# Altium footprint library custom-case.PcbLib: 168 footprints (part 11 of 11)
Each footprint in its own frame and in the unit in brackets; x right, y up, seen from the top. Pads: shape width x height; smd on the part's side, far side on the other; paste and mask are expansions set on the pad; w line width, h text height; cw(c..) or ccw(c..) is an arc to the next point about the centre after c.
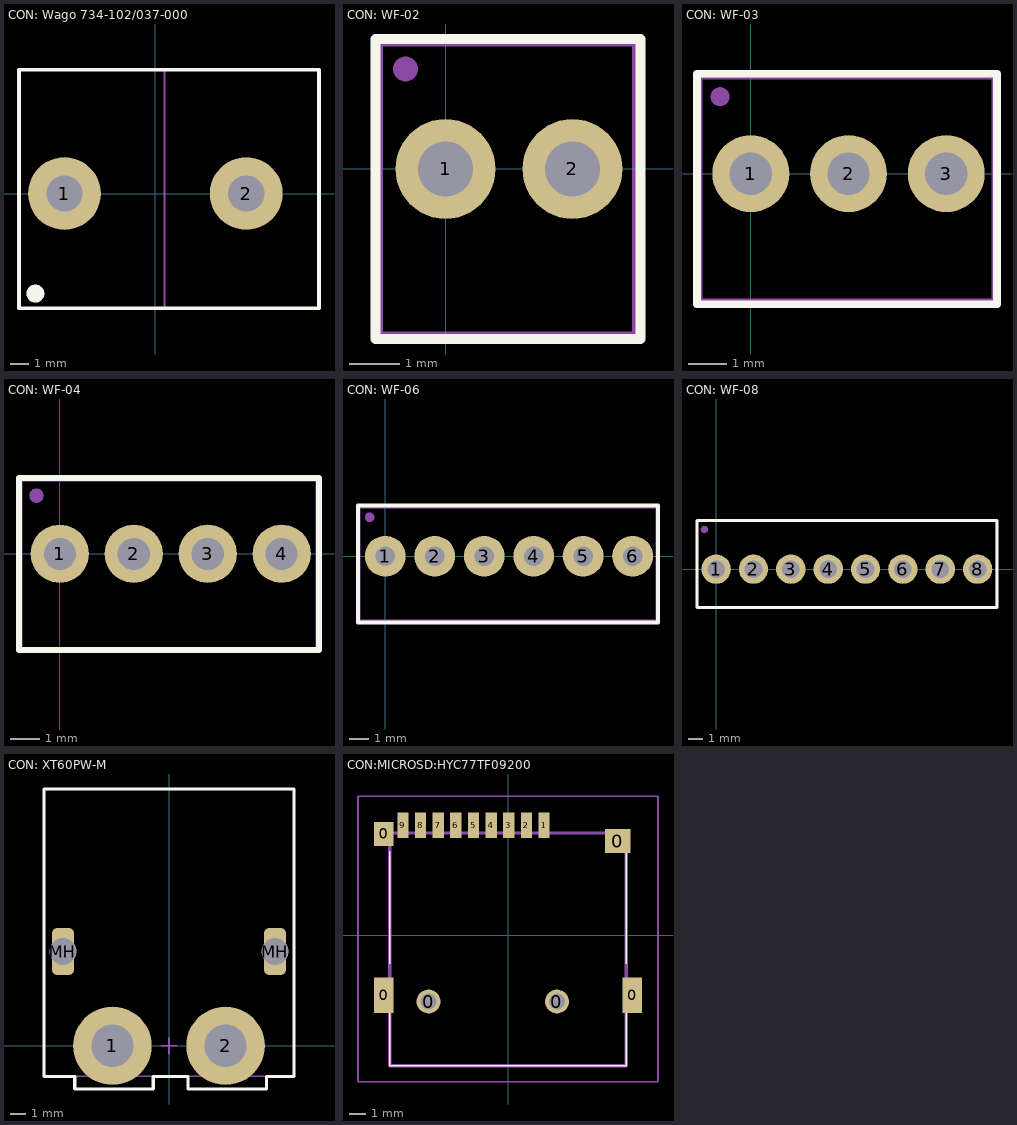
[diagram p10: the footprints below, top view; thin cyan lines are the x and y axes]

## CON: Wago 734-102/037-000 [mm]
pads (3):
  round 4 hole 2: 1(-5,0) 2(5,0)
  round 1 on Top Overlay: ""(-6.6,-5.5)
Top Overlay:
  lines w0.2: -7.5,-6.3 -7.5,6.8 9,6.8 9,-6.3 -7.5,-6.3
Top Assy:
  lines w0.1: 0.5,-6.25 0.5,6.8 ; -7.5,-6.3 -7.5,6.8 9,6.8 9,-6.3 -7.5,-6.3
Size Area:
  lines w0.1: -7.5,6.8 9,6.8 9,-6.3 -7.5,-6.3 -7.5,6.8
3D body "Pin N=2 v3.step": height 15.85, standoff -1.95, extent -7.5,-6.3 9,8

## CON: WF-02 [mm]
pads (3):
  round 2 hole 1.1: 1(0,0) 2(2.54,0)
  round 0.5 on Mech1: ""(-0.8,2)
Top Overlay:
  lines w0.2: -1.4,-3.4 -1.4,2.6 3.9,2.6 3.9,-3.4 -1.4,-3.4
Top Assy:
  lines w0.1: -1.3,-3.3 3.78,-3.3 3.78,2.5 -1.3,2.5 -1.3,-3.3
3D body "User Library-WF-02.STEP": height 11.5, standoff -3.3, extent -1.3,-3.3 3.78,2.5

## CON: WF-03 [mm]
pads (4):
  round 2 hole 1.1: 1(0,0) 2(2.54,0) 3(5.08,0)
  round 0.5 on Mech1: ""(-0.8,2)
Top Overlay:
  lines w0.2: -1.4,-3.4 -1.4,2.6 6.4,2.6 6.4,-3.4 -1.4,-3.4
Top Assy:
  lines w0.1: -1.31,-3.3 -1.31,2.5 6.31,2.5 6.31,-3.3 -1.31,-3.3
3D body "User Library-WF-03.STEP": height 11.5, standoff -3.3, extent -1.31,-3.3 6.31,2.5

## CON: WF-04 [mm]
pads (5):
  round 2 hole 1.1: 1(0,0) 2(2.54,0) 3(5.08,0) 4(7.62,0)
  round 0.5 on Mech1: ""(-0.8,2)
Top Overlay:
  lines w0.2: -1.4,-3.3 8.9,-3.3 8.9,2.6 -1.4,2.6 -1.4,-3.3
Top Assy:
  lines w0.1: -1.33,-3.273 8.83,-3.273 8.83,2.527 -1.33,2.527 -1.33,-3.273
3D body "User Library-WF-04.STEP": height 11.66, standoff -3.14, extent -1.33,-3.273 8.83,2.527

## CON: WF-06 [mm]
pads (7):
  round 2.1 hole 1: 1(0,0) 2(2.54,0) 3(5.08,0) 4(7.62,0) 5(10.16,0) 6(12.7,0)
  round 0.5 on Mech1: ""(-0.8,2)
Top Overlay:
  lines w0.2: -1.4,-3.4 -1.4,2.6 14,2.6 14,-3.4 -1.4,-3.4
Top Assy:
  lines w0.1: -1.32,-3.3 -1.32,2.5 13.92,2.5 13.92,-3.3 -1.32,-3.3
3D body "User Library-WF-06.STEP": height 11.5, standoff -3.3, extent -1.32,-3.3 13.92,2.5

## CON: WF-08 [mm]
pads (9):
  round 2 hole 1.2: 1(0,0) 2(2.54,0) 3(5.08,0) 4(7.62,0) 5(10.16,0) 6(12.7,0) 7(15.24,0) 8(17.78,0)
  round 0.5 on Mech1: ""(-0.8,2.7)
Top Overlay:
  lines w0.2: -1.3,-2.6 -1.3,3.3 19.1,3.3 19.1,-2.6 -1.3,-2.6
Top Assy:
  lines w0.1: -1.27,-2.54 19.05,-2.54 19.05,3.26 -1.27,3.26 -1.27,-2.54
3D body "User Library-WF-8.STEP": height 11.4, standoff -3.4, extent -1.27,-2.54 19.05,3.26

## CON: XT60PW-M [mm]
pads (4):
  round 5 hole 2.7: 1(-3.6,0) 2(3.6,0)
  rrect50% 1.4x3 hole 1.7 square: MH(-6.75,6) MH(6.75,6)
Top Overlay:
  lines w0.2: -7.95,-1.95 -6,-1.95 -6,-2.75 -1,-2.75 -1,-1.95 1.2,-1.95 1.2,-2.75 6.2,-2.75 6.2,-1.95 7.95,-1.95 7.95,16.35 -7.95,16.35 -7.95,-1.95
Top Assy:
  lines w0.1: -7.95,-1.95 7.95,-1.95 7.95,16.35 -7.95,16.35 -7.95,-1.95
Size Area:
  lines w0.1: -0.5,0 0.5,0 ; 0,-0.5 0,0.5 ; -7.95,-1.95 -7.95,16.35 7.95,16.35 7.95,-1.95 6.2,-1.95 6.2,-2.75 1.2,-2.75 1.2,-1.95 -1,-1.95 -1,-2.75 -6,-2.75 -6,-1.95 -7.95,-1.95
3D body "XT60PW.SLDPRT": height 8.5, standoff -2, extent -7.95,-1.95 7.95,16.35

## CON:MICROSD:HYC77TF09200 [mm]
pads (15):
  rect 1.2x2.2 smd: 0(-7.75,-3.725) 0(7.75,-3.725)
  rect 1.2x1.5 smd: 0(-7.75,6.325)
  round 1.5 hole 1: 0(-4.95,-4.125) 0(3.05,-4.125)
  rect 1.6x1.5 smd: 0(6.85,5.875)
  rect 0.7x1.6 smd: 1(2.25,6.875) 2(1.15,6.875) 3(0.05,6.875) 4(-1.05,6.875) 5(-2.15,6.875) 6(-3.25,6.875) 7(-4.35,6.875) 8(-5.45,6.875) 9(-6.55,6.875)
Top Overlay:
  lines w0.1: -7.375,-4.775 -7.375,-8.125 7.375,-8.125 7.375,-4.775 ; -7.375,-1.775 -7.375,5.225 ; 7.375,-1.775 7.375,5.225
3D model:
  lines w0.2: -7.375,-8.125 7.375,-8.125 7.375,6.375 -7.375,6.375 -7.375,-8.125
Size Area:
  lines w0.1: -9.35,-9.125 9.35,-9.125 9.35,8.675 -9.35,8.675 -9.35,-9.125
3D body "HYC77-TF09-200.stp": height 2.1, standoff -5, extent -8.23,-8.125 8.23,7.605